# Altium footprint library [SEN0335][M027.00014]environmental Module ENS160+BME280(V2.0.0).PcbLib: 1 footprints
Each footprint in its own frame and in the unit in brackets; x right, y up, seen from the top. Pads: shape width x height; smd on the part's side, far side on the other; paste and mask are expansions set on the pad; w line width, h text height; cw(c..) or ccw(c..) is an arc to the next point about the centre after c.
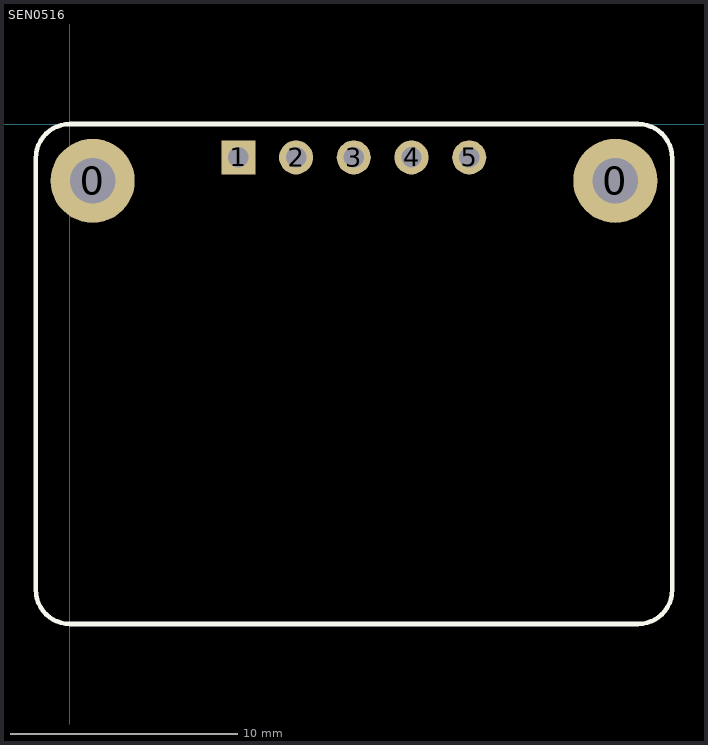
[diagram p0: the footprint, top view; thin cyan lines are the x and y axes]

## SEN0516 [mm]
pads (7):
  round 3.7 hole 2 unplated: 0(1,-2.5) 0(24,-2.5)
  rect 1.5x1.5 hole 0.9 unplated: 1(7.41,-1.47)
  round 1.5 hole 0.9 unplated: 2(9.95,-1.47) 3(12.49,-1.47) 4(15.03,-1.47) 5(17.57,-1.47)
Top Overlay:
  lines w0.2: -1.5,-20.5 ccw(c0,-20.5) 0,-22 25,-22 ccw(c25,-20.5) 26.5,-20.5 26.5,-1.5 ccw(c25,-1.5) 25,0 0,0 ccw(c0,-1.5) -1.5,-1.5 -1.5,-20.5